# EAGLE library part ESP8266-WITTY (library me)
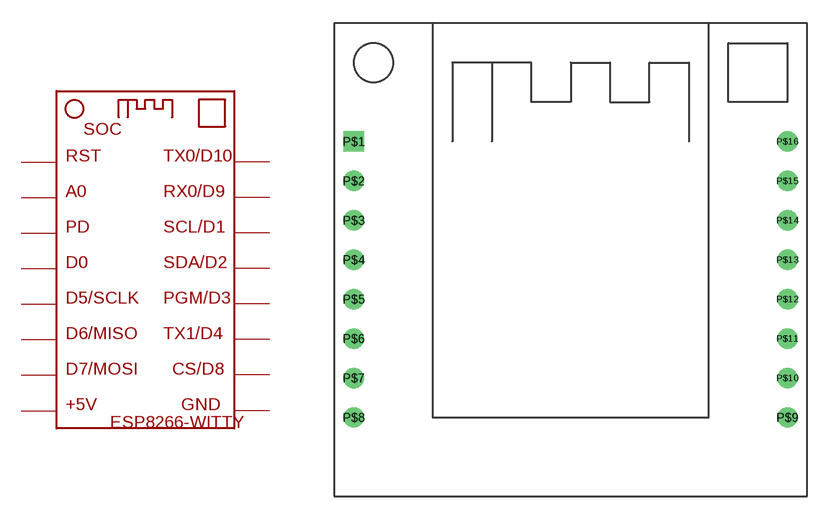
[diagram p13: symbol with the pads of WITTY; footprint WITTY]

Designator prefix SOC

## ESP8266-WITTY  [WITTY]
P$1  P$1
P$2  P$2
P$3  P$3
P$4  P$4
P$5  P$5
P$6  P$6
P$7  P$7
P$8  P$8
P$9  P$9
P$10  P$10
P$11  P$11
P$12  P$12
P$13  P$13
P$14  P$14
P$15  P$15
P$16  P$16

## Footprint WITTY (pad centres in mm)
drill 0.8 square: P$1 -13.97,7.62
drill 0.8: P$2 -13.97,5.08; P$3 -13.97,2.54; P$4 -13.97,0; P$5 -13.97,-2.54; P$6 -13.97,-5.08; P$7 -13.97,-7.62; P$8 -13.97,-10.16; P$9 13.97,-10.16; P$10 13.97,-7.62; P$11 13.97,-5.08; P$12 13.97,-2.54; P$13 13.97,0; P$14 13.97,2.54; P$15 13.97,5.08; P$16 13.97,7.62